# Altium footprint library LED_TH_5MM.PcbLib: 1 footprints
Each footprint in its own frame and in the unit in brackets; x right, y up, seen from the top. Pads: shape width x height; smd on the part's side, far side on the other; paste and mask are expansions set on the pad; w line width, h text height; cw(c..) or ccw(c..) is an arc to the next point about the centre after c.
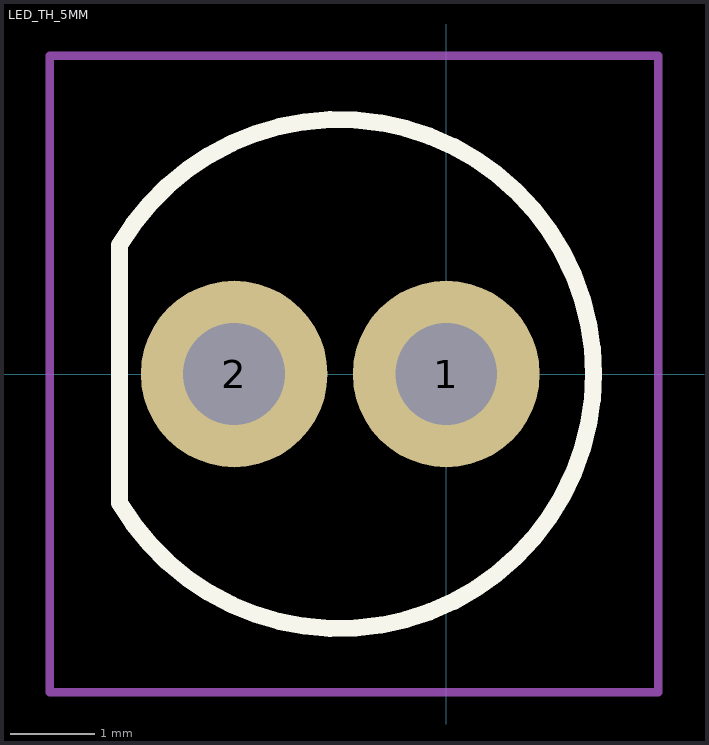
[diagram p0: the footprint, top view; thin cyan lines are the x and y axes]

## LED_TH_5MM [mm]
pads (2):
  round 2.2 hole 1.2: 1(0,0) 2(-2.5,0)
Top Overlay:
  lines w0.2: -3.85,-1.521 ccw(c-1.264,0) -3.85,1.521 -3.85,-1.521
Top Courtyard:
  lines w0.1: -4.675,-3.75 -4.675,3.75 2.5,3.75 2.5,-3.75 -3.85,-3.75 -4.675,-3.75
3D body "L08R5000Q1--3DModel-STEP-56544.STEP": height 11.64, standoff -15.26, extent -3.86,-2.952 1.69,2.948